# Altium schematic symbol library 5015681407.Schlib: 1 symbol
Pins are listed as number, name and electrical type; pins without a type are passive.

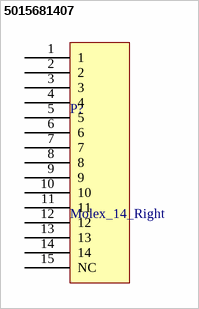
[diagram p0: symbol 5015681407]

## 5015681407
designator P?, comment Molex_14_Right
14 Pin Right Molex PCB Header
pins: 1, 2, 3, 4, 5, 6, 7, 8, 9, 10, 11, 12, 13, 14, 15 NC